# Altium footprint library ECS160185PXGMTR.PcbLib: 1 footprints
Each footprint in its own frame and in the unit in brackets; x right, y up, seen from the top. Pads: shape width x height; smd on the part's side, far side on the other; paste and mask are expansions set on the pad; w line width, h text height; cw(c..) or ccw(c..) is an arc to the next point about the centre after c.
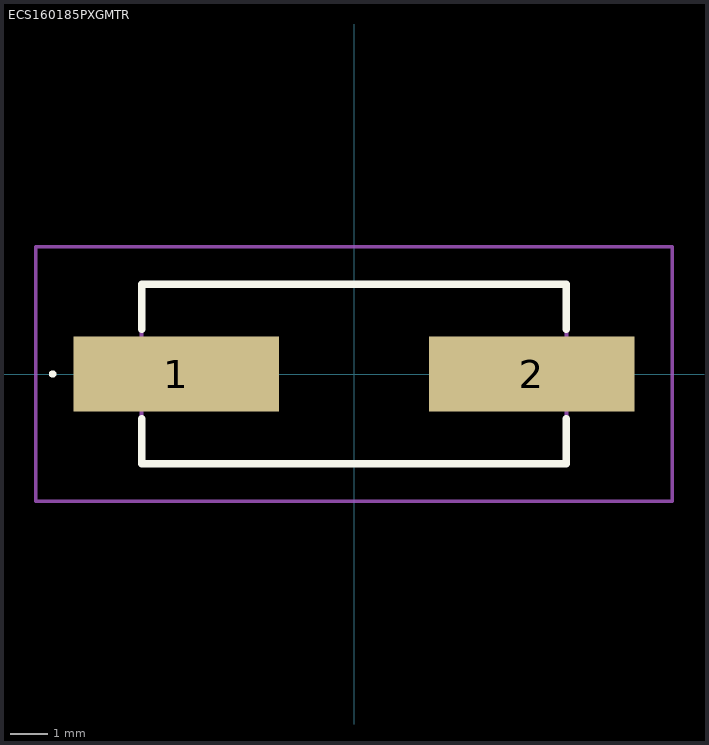
[diagram p0: the footprint, top view; thin cyan lines are the x and y axes]

## ECS160185PXGMTR [mm]
pads (2):
  rect 5.5x2 smd: 1(-4.75,0) 2(4.75,0)
Top Overlay:
  lines w0.1: -8.1,0 -8.1,0 ; -8.1,0 ccw(c-8.05,0) -8,0 ; -8.1,0 cw(c-8.05,0) -8,0 ; -8,0 -8,0
  lines w0.2: -5.675,-1.2 -5.675,-2.4 5.675,-2.4 5.675,-1.2 ; -5.675,1.2 -5.675,2.4 5.675,2.4 5.675,1.2
Mechanical 15:
  lines w0.1: -5.675,-2.4 5.675,-2.4 5.675,2.4 -5.675,2.4 -5.675,-2.4
Mechanical 20:
  lines w0.1: -8.5,-3.4 8.5,-3.4 8.5,3.4 -8.5,3.4 -8.5,-3.4